# Altium footprint library DF6288.PcbLib: 1 footprints
Each footprint in its own frame and in the unit in brackets; x right, y up, seen from the top. Pads: shape width x height; smd on the part's side, far side on the other; paste and mask are expansions set on the pad; w line width, h text height; cw(c..) or ccw(c..) is an arc to the next point about the centre after c.
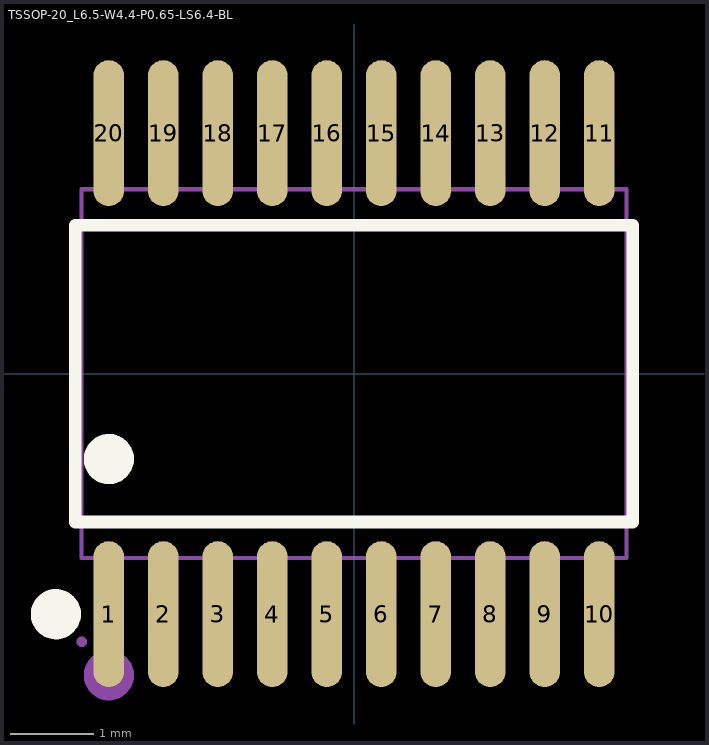
[diagram p0: the footprint, top view; thin cyan lines are the x and y axes]

## TSSOP-20_L6.5-W4.4-P0.65-LS6.4-BL [mil]
pads (20):
  oval 14.3x68.6 smd mask+2: 1(-115.2,-113) 2(-89.6,-113) 3(-64,-113) 4(-38.4,-113) 5(-12.8,-113) 6(12.8,-113) 7(38.4,-113) 8(64,-113) 9(89.6,-113) 10(115.2,-113) 11(115.2,113) 12(89.6,113) 13(64,113) 14(38.4,113) 15(12.8,113) 16(-12.8,113) 17(-38.4,113) 18(-64,113) 19(-89.6,113) 20(-115.2,113)
Top Overlay:
  circle w11.8: c-140.1,-113 r5.9
  circle w11.8: c-115.2,-40.1 r5.9
  lines w6: -131,-69.7 131,-69.7 131,69.7 -131,69.7 -131,-69.7
Mechanical 6:
  circle w11.8: c-115.2,-141.7 r5.9
Mechanical 15:
  drawing of 45 lines, arcs and shapes, not listed